# Altium schematic symbol library XP_4P.Schlib: 1 symbol
Pins are listed as number, name and electrical type; pins without a type are passive.

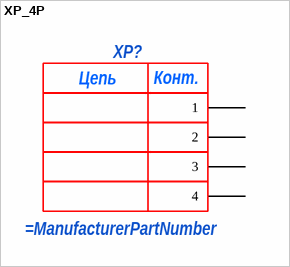
[diagram p0: symbol XP_4P]

## XP_4P
designator XP?
pins: 1, 2, 3, 4
text: Цепь; Конт.